# Altium footprint library mouser_68pin_connector.PcbLib: 2 footprints
Each footprint in its own frame and in the unit in brackets; x right, y up, seen from the top. Pads: shape width x height; smd on the part's side, far side on the other; paste and mask are expansions set on the pad; w line width, h text height; cw(c..) or ccw(c..) is an arc to the next point about the centre after c.
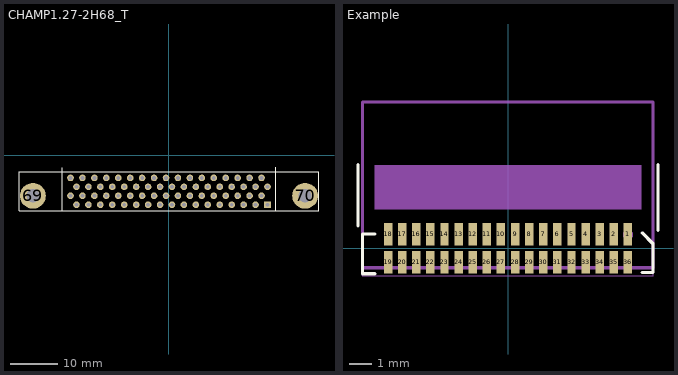
[diagram p0: the footprints below, top view; thin cyan lines are the x and y axes]

## CHAMP1.27-2H68_T [mm] "Connector; 68 Position; Right Angle; Pitch 1.27 mm"
height 9.6
pads (70):
  round 1.4 hole 0.8: 1(20.955,-6.69) 2(19.685,-4.785) 3(18.415,-6.69) 4(17.145,-4.785) 5(15.875,-6.69) 6(14.605,-4.785) 7(13.335,-6.69) 8(12.065,-4.785) 9(10.795,-6.69) 10(9.525,-4.785) 11(8.255,-6.69) 12(6.985,-4.785) 13(5.715,-6.69) 14(4.445,-4.785) 15(3.175,-6.69) 16(1.905,-4.785) 17(0.635,-6.69) 18(-0.635,-4.785) 19(-1.905,-6.69) 20(-3.175,-4.785) 21(-4.445,-6.69) 22(-5.715,-4.785) 23(-6.985,-6.69) 24(-8.255,-4.785) 25(-9.525,-6.69) 26(-10.795,-4.785) 27(-12.065,-6.69) 28(-13.335,-4.785) 29(-14.605,-6.69) 30(-15.875,-4.785) 31(-17.145,-6.69) 32(-18.415,-4.785) 33(-19.685,-6.69) 34(-20.955,-4.785) 36(19.685,-8.595) 37(18.415,-10.5) 38(17.145,-8.595) 39(15.875,-10.5) 40(14.605,-8.595) 41(13.335,-10.5) 42(12.065,-8.595) 43(10.795,-10.5) 44(9.525,-8.595) 45(8.255,-10.5) 46(6.985,-8.595) 47(5.715,-10.5) 48(4.445,-8.595) 49(3.175,-10.5) 50(1.905,-8.595) 51(0.635,-10.5) 52(-0.635,-8.595) 53(-1.905,-10.5) 54(-3.175,-8.595) 55(-4.445,-10.5) 56(-5.715,-8.595) 57(-6.985,-10.5) 58(-8.255,-8.595) 59(-9.525,-10.5) 60(-10.795,-8.595) 61(-12.065,-10.5) 62(-13.335,-8.595) 63(-14.605,-10.5) 64(-15.875,-8.595) 65(-17.145,-10.5) 66(-18.415,-8.595) 67(-19.685,-10.5) 68(-20.955,-8.595)
  rect 1.4x1.4 hole 0.8: 35(20.955,-10.5)
  round 5.5 hole 2.8: 69(-28.965,-8.595) 70(28.965,-8.595)
Top Overlay:
  lines w0.2: -22.715,-11.8 -22.715,-2.58 ; 22.715,-11.8 22.715,-2.5 ; -31.915,-11.8 31.915,-11.8 31.915,-3.5 -31.915,-3.5 -31.915,-11.8
3D body "c-5787394-7-c-3d.stp": height 9.5, standoff -2.54, extent -31.941,-20.366 31.941,-3.5

## Example [mil] "Example template footprint"
height 59.06
pads (36):
  rect 15x40 smd: 1(212.5,25) 2(187.5,25) 3(162.5,25) 4(137.5,25) 5(112.5,25) 6(87.5,25) 7(62.5,25) 8(37.5,25) 9(12.5,25) 10(-12.5,25) 11(-37.5,25) 12(-62.5,25) 13(-87.5,25) 14(-112.5,25) 15(-137.5,25) 16(-162.5,25) 17(-187.5,25) 18(-212.5,25) 19(-212.5,-25) 20(-187.5,-25) 21(-162.5,-25) 22(-137.5,-25) 23(-112.5,-25) 24(-87.5,-25) 25(-62.5,-25) 26(-37.5,-25) 27(-12.5,-25) 28(12.5,-25) 29(37.5,-25) 30(62.5,-25) 31(87.5,-25) 32(112.5,-25) 33(137.5,-25) 34(162.5,-25) 35(187.5,-25) 36(212.5,-25)
Top Overlay:
  lines w5.91: -265.75,39.37 -265.75,147.64 ; -235.83,-45.05 -257.87,-45.05 -257.87,24.95 -235.83,24.95 ; 237.87,-43.08 256.89,-43.08 256.89,7.91 237.87,26.92 ; 265.75,31.5 265.75,147.64
Top Fab Assembly - M13:
  circle w10: c212.6,23.62 r3.94
  lines w5.91: -257.87,-34.45 -257.87,258.86 256.89,258.86 256.89,-34.45 -257.87,-34.45
  text ".Designator" at -196.85,88.58 h39.37
Top Courtyard - M15:
  lines w1.97: -257.87,-49.21 -257.87,258.86 256.89,258.86 256.89,-49.21 -257.87,-49.21
Top Adhesive/Glue - M17:
  rectangle: -236.22,68.9 236.22,147.64
3D body "A79025-001.STEP": height 71, standoff 0.5, extent -257.5,-34.5 257.5,258.5